# EAGLE library part HDR-1X16 (library con-hdrs40)
HEADER CONNECTOR
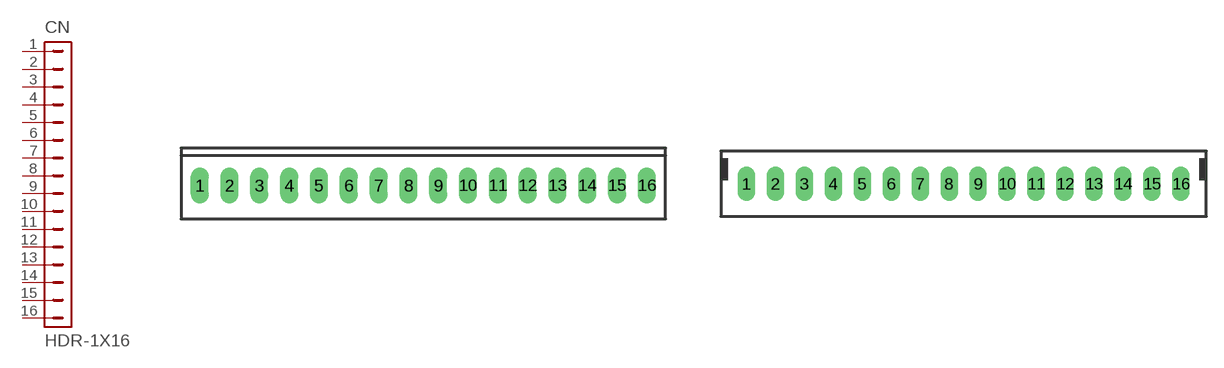
[diagram p10: symbol with the pads of MTA-100-16V; footprints MTA-100-16V, MTE-100-16V]

Designator prefix CN

## HDR-1X16-MTA-100  [MTA-100-16V]
1  1  pas
2  2  pas
3  3  pas
4  4  pas
5  5  pas
6  6  pas
7  7  pas
8  8  pas
9  9  pas
10  10  pas
11  11  pas
12  12  pas
13  13  pas
14  14  pas
15  15  pas
16  16  pas

## HDR-1X16-MTE-100  [MTE-100-16V]
Pads as for MTA-100-16V

## HDR-1X16-MTE-100-L  [MTE-100-16VL]
Pads as for MTA-100-16V

## HDR-1X16-SIP-100  [SIP-100-16V]
Pads as for MTA-100-16V

## HDR-1X16-15-91-?  [15-91-16]
Pads as for MTA-100-16V

## HDR-1X16-70543-?  [70543-16]
Pads as for MTA-100-16V

## HDR-1X16-70553-?  [70553-16]
Pads as for MTA-100-16V

## HDR-1X16-FH21-16  [FH21-16]
Pads as for MTA-100-16V

## Footprint MTA-100-16V (pad centres in mm)
AMP MTA Vertical .100" 16 pin
drill 1.016 long: 1 -19.05,0; 2 -16.51,0; 3 -13.97,0; 4 -11.43,0; 5 -8.89,0; 6 -6.35,0; 7 -3.81,0; 8 -1.27,0; 9 1.27,0; 10 3.81,0; 11 6.35,0; 12 8.89,0; 13 11.43,0; 14 13.97,0; 15 16.51,0; 16 19.05,0

## Footprint MTE-100-16V (pad centres in mm)
AMP MTE Vertical .100" 16 pin
drill 1.016 long: 1 -19.05,0; 2 -16.51,0; 3 -13.97,0; 4 -11.43,0; 5 -8.89,0; 6 -6.35,0; 7 -3.81,0; 8 -1.27,0; 9 1.27,0; 10 3.81,0; 11 6.35,0; 12 8.89,0; 13 11.43,0; 14 13.97,0; 15 16.51,0; 16 19.05,0

## Footprint MTE-100-16VL (pad centres in mm)
AMP MTE Vertical .100" 16 pin
drill 1.016 long: 1 -19.05,0; 2 -16.51,0; 3 -13.97,0; 4 -11.43,0; 5 -8.89,0; 6 -6.35,0; 7 -3.81,0; 8 -1.27,0; 9 1.27,0; 10 3.81,0; 11 6.35,0; 12 8.89,0; 13 11.43,0; 14 13.97,0; 15 16.51,0; 16 19.05,0

## Footprint SIP-100-16V (pad centres in mm)
SIP Header Vertical 100" 16 pin
drill 1.016 long: 1 -19.05,0; 2 -16.51,0; 3 -13.97,0; 4 -11.43,0; 5 -8.89,0; 6 -6.35,0; 7 -3.81,0; 8 -1.27,0; 9 1.27,0; 10 3.81,0; 11 6.35,0; 12 8.89,0; 13 11.43,0; 14 13.97,0; 15 16.51,0; 16 19.05,0

## Footprint 15-91-16 (pad centres in mm)
Molex C-Grid SL Connector right angle SMD, 16 pin
smd 1.651 x 5.334: 1 -19.05,-10.795; 2 -16.51,-10.795; 3 -13.97,-10.795; 4 -11.43,-10.795; 5 -8.89,-10.795; 6 -6.35,-10.795; 7 -3.81,-10.795; 8 -1.27,-10.795; 9 1.27,-10.795; 10 3.81,-10.795; 11 6.35,-10.795; 12 8.89,-10.795; 13 11.43,-10.795; 14 13.97,-10.795; 15 16.51,-10.795; 16 19.05,-10.795
hole 3.404 at -20.447,0.838
hole 3.404 at 20.447,0.838

## Footprint 70543-16 (pad centres in mm)
Molex C-Grid SL Connector vertical, 16 pin
drill 1.016 long: 1 -19.05,0; 2 -16.51,0; 3 -13.97,0; 4 -11.43,0; 5 -8.89,0; 6 -6.35,0; 7 -3.81,0; 8 -1.27,0; 9 1.27,0; 10 3.81,0; 11 6.35,0; 12 8.89,0; 13 11.43,0; 14 13.97,0; 15 16.51,0; 16 19.05,0

## Footprint 70553-16 (pad centres in mm)
Molex C-Grid SL Connector right angle, 16 pin
drill 1.092 long: 1 -19.05,-7.62; 2 -16.51,-7.62; 3 -13.97,-7.62; 4 -11.43,-7.62; 5 -8.89,-7.62; 6 -6.35,-7.62; 7 -3.81,-7.62; 8 -1.27,-7.62; 9 1.27,-7.62; 10 3.81,-7.62; 11 6.35,-7.62; 12 8.89,-7.62; 13 11.43,-7.62; 14 13.97,-7.62; 15 16.51,-7.62; 16 19.05,-7.62

## Footprint FH21-16 (pad centres in mm)
Hirose FH21 1 MM Flex Connector right angle, 16 pin,
drill 0.813 square: 1 -7.5,-1
drill 0.813 round: 2 -6.5,1; 3 -5.5,-1; 4 -4.5,1; 5 -3.5,-1; 6 -2.5,1; 7 -1.5,-1; 8 -0.5,1; 9 0.5,-1; 10 1.5,1; 11 2.5,-1; 12 3.5,1; 13 4.5,-1; 14 5.5,1; 15 6.5,-1; 16 7.5,1